# Altium schematic symbol library Synthiam-new.SchLib: 172 symbols (part 2 of 2)
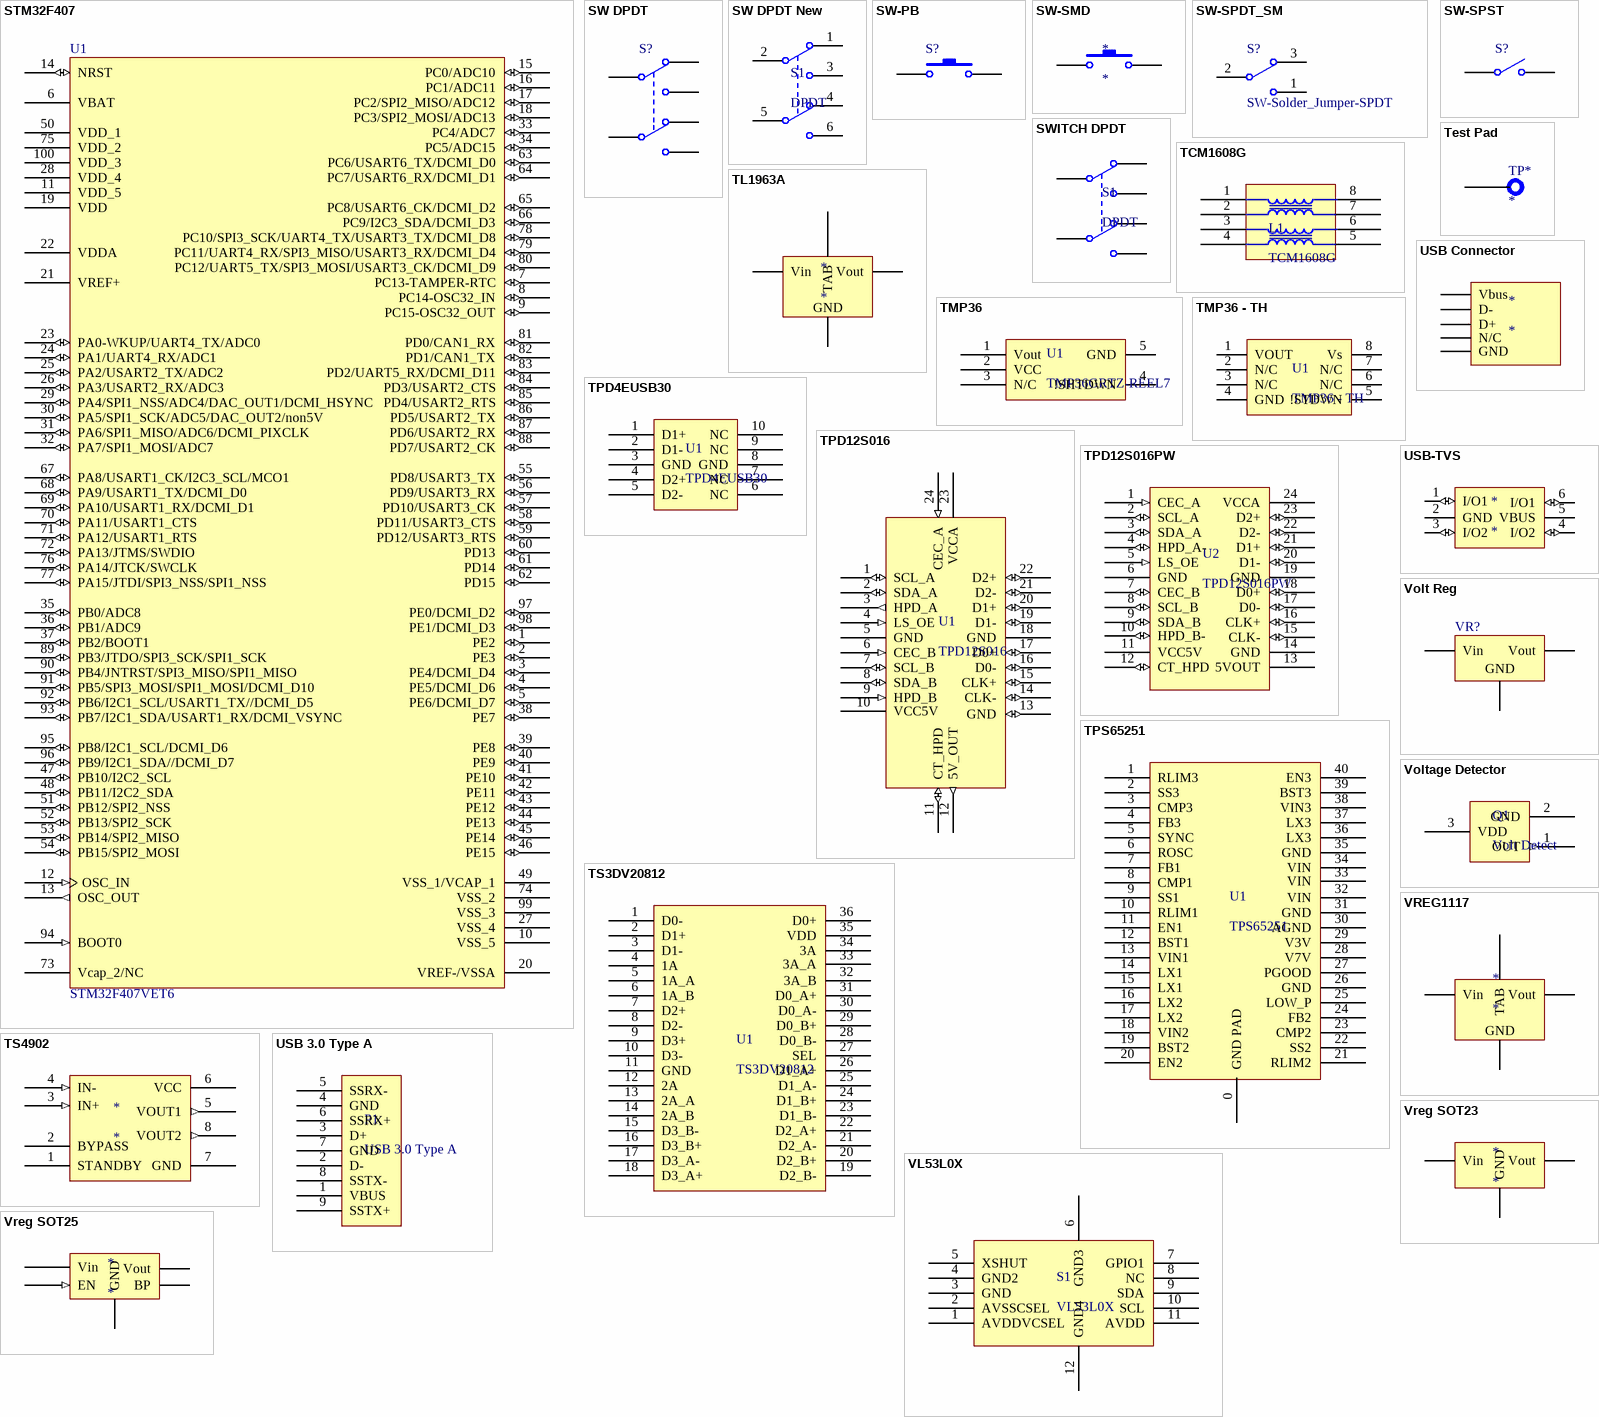
[diagram p7: symbols STM32F407 to Vreg SOT25]

## STM32F407
designator STM32F407VET6, comment U1
footprint TQFP100_M (Thin QFP, 100-Leads, Body 14x14mm, Pitch 0.5mm, IPC Low Density)
pins: 1 PE2 (io), 2 PE3 (io), 3 PE4/DCMI_D4 (io), 4 PE5/DCMI_D6 (io), 5 PE6/DCMI_D7 (io), 6 VBAT (power), 7 PC13-TAMPER-RTC (io), 8 PC14-OSC32_IN (io), 9 PC15-OSC32_OUT (io), 10 VSS_5 (power), 11 VDD_5 (power), 12 OSC_IN (in), 13 OSC_OUT (out), 14 NRST (io), 15 PC0/ADC10 (io), 16 PC1/ADC11 (io), 17 PC2/SPI2_MISO/ADC12 (io), 18 PC3/SPI2_MOSI/ADC13 (io), 19 VDD (power), 20 VREF-/VSSA (power), 21 VREF+ (power), 22 VDDA (power), 23 PA0-WKUP/UART4_TX/ADC0 (io), 24 PA1/UART4_RX/ADC1 (io), 25 PA2/USART2_TX/ADC2 (io), 26 PA3/USART2_RX/ADC3 (io), 27 VSS_4 (power), 28 VDD_4 (power), 29 PA4/SPI1_NSS/ADC4/DAC_OUT1/DCMI_HSYNC (io), 30 PA5/SPI1_SCK/ADC5/DAC_OUT2/non5V (io), 31 PA6/SPI1_MISO/ADC6/DCMI_PIXCLK (io), 32 PA7/SPI1_MOSI/ADC7 (io), 33 PC4/ADC7 (io), 34 PC5/ADC15 (io), 35 PB0/ADC8 (io), 36 PB1/ADC9 (io), 37 PB2/BOOT1 (io), 38 PE7 (io), 39 PE8 (io), 40 PE9 (io), 41 PE10 (io), 42 PE11 (io), 43 PE12 (io), 44 PE13 (io), 45 PE14 (io), 46 PE15 (io), 47 PB10/I2C2_SCL (io), 48 PB11/I2C2_SDA (io), 49 VSS_1/VCAP_1 (power), 50 VDD_1 (power), 51 PB12/SPI2_NSS (io), 52 PB13/SPI2_SCK (io), 53 PB14/SPI2_MISO (io), 54 PB15/SPI2_MOSI (io), 55 PD8/USART3_TX (io), 56 PD9/USART3_RX (io), 57 PD10/USART3_CK (io), 58 PD11/USART3_CTS (io), 59 PD12/USART3_RTS (io), 60 PD13 (io), 61 PD14 (io), 62 PD15 (io), 63 PC6/USART6_TX/DCMI_D0 (io), 64 PC7/USART6_RX/DCMI_D1 (io), 65 PC8/USART6_CK/DCMI_D2 (io), 66 PC9/I2C3_SDA/DCMI_D3 (io), 67 PA8/USART1_CK/I2C3_SCL/MCO1 (io), 68 PA9/USART1_TX/DCMI_D0 (io), 69 PA10/USART1_RX/DCMI_D1 (io), 70 PA11/USART1_CTS (io), 71 PA12/USART1_RTS (io), 72 PA13/JTMS/SWDIO (io), 73 Vcap_2/NC, 74 VSS_2 (power), 75 VDD_2 (power), 76 PA14/JTCK/SWCLK (io), 77 PA15/JTDI/SPI3_NSS/SPI1_NSS (io), 78 PC10/SPI3_SCK/UART4_TX/USART3_TX/DCMI_D8 (io), 79 PC11/UART4_RX/SPI3_MISO/USART3_RX/DCMI_D4 (io), 80 PC12/UART5_TX/SPI3_MOSI/USART3_CK/DCMI_D9 (io), 81 PD0/CAN1_RX (io), 82 PD1/CAN1_TX (io), 83 PD2/UART5_RX/DCMI_D11 (io), 84 PD3/USART2_CTS (io), 85 PD4/USART2_RTS (io), 86 PD5/USART2_TX (io), 87 PD6/USART2_RX (io), 88 PD7/USART2_CK (io), 89 PB3/JTDO/SPI3_SCK/SPI1_SCK (io), 90 PB4/JNTRST/SPI3_MISO/SPI1_MISO (io), 91 PB5/SPI3_MOSI/SPI1_MOSI/DCMI_D10 (io), 92 PB6/I2C1_SCL/USART1_TX//DCMI_D5 (io), 93 PB7/I2C1_SDA/USART1_RX/DCMI_VSYNC (io), 94 BOOT0 (in), 95 PB8/I2C1_SCL/DCMI_D6 (io), 96 PB9/I2C1_SDA//DCMI_D7 (io), 97 PE0/DCMI_D2 (io), 98 PE1/DCMI_D3 (io), 99 VSS_3 (power), 100 VDD_3 (power)

## SW DPDT
designator S?
Switch; Published: 24-Mar-1999; LatestRevisionDate: 29-May-2009; LatestRevisionNote: IPC-7351 Footprint Added.; PackageVersion: Mar-2001; PackageReference: SOT23-6; Publisher: Altium Limited; PackageDescription: 6-Pin SOT-23 Package 0.95 mm Pitch, 2.7 mm Lead Span; Code_JEITA: SC-74; Code_IPC: SOT26A-6
footprint SOT23-6_M (SOT23, 6-Leads, Body 2.9x1.6mm, Pitch 0.95mm, Lead Span 2.7mm, IPC Low Density)
pins: 1 COMMON1, 2 NC1, 3 NO1, 4 NC2, 5 COMMON2, 6 NO2

## SW DPDT New
designator S1, comment DPDT
footprint DPDT Switch
pins: 1 NC1, 2 COMMON1, 3 NO1, 4 NC2, 5 COMMON2, 6 NO2

## SW-PB
designator S?
Switch; Published: 24-Mar-1999; LatestRevisionDate: 17-Jul-2002; LatestRevisionNote: Re-released for DXP Platform.; PackageReference: SPST-2; Publisher: Altium Limited
footprint SPST-2 (Switch; 2 Leads)
pins: 1, 2

## SW-SMD
designator *
footprint SW-SMD
pins: 1, 2

## SW-SPDT_SM
designator S?, comment SW-Solder_Jumper-SPDT
SPDT Solder Jumper; Publisher: Solarbotics Ltd.
footprint SJ-SPDT (Solder blob 2 positions)
pins: 1, 2, 3

## SW-SPST
designator S?
Single-Pole, Single-Throw Switch; Published: 24-Mar-1999; LatestRevisionDate: 17-Jul-2002; LatestRevisionNote: Re-released for DXP Platform.; PackageReference: SPST-2; Publisher: Altium Limited
footprint SPST-2 (Single-Pole, Single-Throw Switch; 2 Leads)
pins: 1 COMMON, 2 NO

## SWITCH DPDT
designator S1, comment DPDT
footprint SWITCH DPDT SMD
pins: 1 NC1, 2 COMMON1, 3 NO1, 4 NC2, 5 COMMON2, 6 NO2

## TCM1608G
designator L1
footprint TCM1608G
pins: 1, 2, 3, 4, 5, 6, 7, 8

## Test Pad
designator TP*
Test Pad / Aux Pad
footprint Test_Pad-lg (80mil pad, 72mil hole)
footprint Test_Pad-reg (70mil dia; 35mil hole)
pins: 0

## TL1963A
designator *
footprint VREG1117
pins: 1 Vin, 2 GND, 2 TAB, 3 Vout

## TMP36
designator U1, comment TMP36GRTZ-REEL7
footprint SOT-23-5
pins: 1 Vout (power), 2 VCC (power), 3 N/C, 4 !SHTDWN (power), 5 GND (power)

## TMP36 - TH
designator U1
footprint SOIC-8
pins: 1 VOUT (power), 2 N/C, 3 N/C, 4 GND (power), 5 !STDWN, 6 N/C, 7 N/C, 8 Vs (power)

## TPD4EUSB30
designator U1
footprint TPD4EUSB30
pins: 1 D1+, 2 D1-, 3 GND, 4 D2+, 5 D2-, 6 NC, 7 NC, 8 GND, 9 NC, 10 NC

## TPD12S016
designator U1
footprint TPD12S016
pins: 1 SCL_A (io), 2 SDA_A (io), 3 HPD_A (out), 4 LS_OE (in), 5 GND (power), 6 CEC_B (in), 7 SCL_B (io), 8 SDA_B (io), 9 HPD_B (in), 10 VCC5V (power), 11 CT_HPD (io), 12 5V_OUT (out), 13 GND (io), 14 CLK- (io), 15 CLK+ (io), 16 D0- (io), 17 D0+ (io), 18 GND (power), 19 D1- (io), 20 D1+ (io), 21 D2- (io), 22 D2+ (io), 23 VCCA (power), 24 CEC_A (in)

## TPD12S016PW
designator U2
footprint SSOP24
pins: 1 CEC_A (in), 2 SCL_A (io), 3 SDA_A (io), 4 HPD_A- (io), 5 LS_OE (in), 6 GND (power), 7 CEC_B (io), 8 SCL_B (io), 9 SDA_B (io), 10 HPD_B- (io), 11 VCC5V (power), 12 CT_HPD (io), 13 5VOUT (power), 14 GND (power), 15 CLK- (io), 16 CLK+ (io), 17 D0- (io), 18 D0+ (io), 19 GND (power), 20 D1- (io), 21 D1+ (io), 22 D2- (io), 23 D2+ (io), 24 VCCA (power)

## TPS65251
designator U1
footprint QFN-40 w/ pad
pins: 0 GND PAD, 1 RLIM3, 2 SS3, 3 CMP3, 4 FB3, 5 SYNC, 6 ROSC, 7 FB1, 8 CMP1, 9 SS1, 10 RLIM1, 11 EN1, 12 BST1, 13 VIN1, 14 LX1, 15 LX1, 16 LX2, 17 LX2, 18 VIN2, 19 BST2, 20 EN2, 21 RLIM2, 22 SS2, 23 CMP2, 24 FB2, 25 LOW_P, 26 GND, 27 PGOOD, 28 V7V, 29 V3V, 30 AGND, 31 GND, 32 VIN, 33 VIN, 34 VIN, 35 GND, 36 LX3, 37 LX3, 38 VIN3, 39 BST3, 40 EN3

## TS3DV20812
designator U1
footprint QFN-36
pins: 1 D0-, 2 D1+, 3 D1-, 4 1A, 5 1A_A, 6 1A_B, 7 D2+, 8 D2-, 9 D3+, 10 D3-, 11 GND, 12 2A, 13 2A_A, 14 2A_B, 15 D3_B-, 16 D3_B+, 17 D3_A-, 18 D3_A+, 19 D2_B-, 20 D2_B+, 21 D2_A-, 22 D2_A+, 23 D1_B-, 24 D1_B+, 25 D1_A-, 26 D1_A+, 27 SEL, 28 D0_B-, 29 D0_B+, 30 D0_A-, 31 D0_A+, 32 3A_B, 33 3A_A, 34 3A, 35 VDD, 36 D0+

## TS4902
designator *
footprint SO-8
pins: 1 STANDBY, 2 BYPASS, 3 IN+ (in), 4 IN- (in), 5 VOUT1 (out), 6 VCC (power), 7 GND, 8 VOUT2 (out)

## USB 3.0 Type A
designator P1
footprint USB 3.0 Type A
pins: 1 VBUS, 2 D-, 3 D+, 4 GND, 5 SSRX-, 6 SSRX+, 7 GND, 8 SSTX-, 9 SSTX+

## USB Connector
designator *
footprint 32005-201
pins: 1 Vbus, 2 D-, 3 D+, 4 N/C, 5 GND

## USB-TVS
designator *
footprint SOT23-6_M (SOT23, 6-Leads, Body 2.9x1.6mm, Pitch 0.95mm, Lead Span 2.7mm, IPC Low Density)
pins: 1 I/O1 (io) "Input/Output 1", 2 GND (power) "Ground", 3 I/O2 (io) "Input/Output 2", 4 I/O2 (io) "Input/Output 1", 5 VBUS (power) "Supply", 6 I/O1 (io) "Input/Output 2"

## VL53L0X
designator S1
footprint VL53L0X
pins: 1 AVDDVCSEL, 2 AVSSCSEL, 3 GND, 4 GND2, 5 XSHUT, 6 GND3, 7 GPIO1, 8 NC, 9 SDA, 10 SCL, 11 AVDD, 12 GND4

## Volt Reg
designator VR?
Voltage Regulator; Published: 24-Mar-1999; LatestRevisionDate: 29-May-2009; LatestRevisionNote: IPC-7351 Footprint Added.; PackageReference: D2PAK; Publisher: Altium Limited; PackageDescription: 3-Pin Transistor Outline Package 2.54 mm Pitch, 15.1 mm Lead Span
footprint TI-KTT (Texas Insruments KTT package for TLV1117IKVURG3 VReg); pin to pad 1>2 2>3 3>1
footprint TO92 - LM7805
footprint TO-220
footprint D2PAK_M (D2-PAK, 4-Leads, Body 8.8x10.4mm, Pitch 2.54mm, Lead Span 15.1mm, IPC Low Density)
pins: 1 Vin, 2 GND, 3 Vout

## Voltage Detector
designator Q1, comment Volt Detect
footprint SOT-23
pins: 1 OUT (out), 2 GND, 3 VDD

## VREG1117
designator *
footprint VREG1117
pins: 1 GND, 2 Vout, 2 TAB, 3 Vin

## Vreg SOT23
designator *
footprint SOT-23
pins: 1 GND, 2 Vout, 3 Vin

## Vreg SOT25
designator *
footprint SOT-25 new
pins: 1 BP, 2 Vout, 3 GND, 4 EN (in), 5 Vin

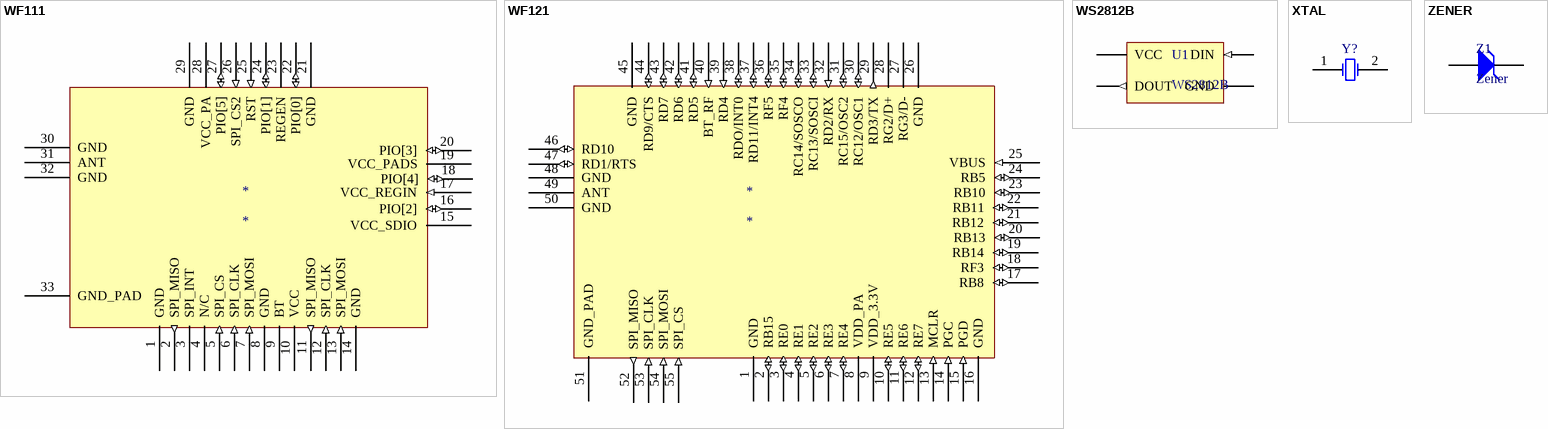
[diagram p6: symbols WF111 to ZENER]

## WF111
designator *
footprint wf111
pins: 1 GND (power), 2 SPI_MISO (out), 3 SPI_INT, 4 N/C (power), 5 SPI_CS (in), 6 SPI_CLK (in), 7 SPI_MOSI (in), 8 GND (power), 9 BT (power), 10 VCC (power), 11 SPI_MISO (out), 12 SPI_CLK (in), 13 SPI_MOSI (in), 14 GND (power), 15 VCC_SDIO (power), 16 PIO[2] (io), 17 VCC_REGIN (in), 18 PIO[4] (io), 19 VCC_PADS (power), 20 PIO[3] (io), 21 GND (power), 22 PIO[0] (io), 23 REGEN (power), 24 PIO[1] (io), 25 RST (in), 26 SPI_CS2 (in), 27 PIO[5] (io), 28 VCC_PA (power), 29 GND (power), 30 GND (power), 31 ANT, 32 GND (power), 33 GND_PAD (power)

## WF121
designator *
footprint wf121
pins: 1 GND (power), 2 RB15 (io), 3 RE0 (io), 4 RE1 (io), 5 RE2 (io), 6 RE3 (io), 7 RE4 (io), 8 VDD_PA (power), 9 VDD_3.3V (power), 10 RE5 (io), 11 RE6 (io), 12 RE7 (io), 13 MCLR (in), 14 PGC (in), 15 PGD (in), 16 GND (power), 17 RB8 (io), 18 RF3 (io), 19 RB14 (io), 20 RB13 (io), 21 RB12 (io), 22 RB11 (io), 23 RB10 (io), 24 RB5 (io), 25 VBUS (in), 26 GND (power), 27 RG3/D-, 28 RG2/D+, 29 RD3/TX (out), 30 RC12/OSC1 (io), 31 RC15/OSC2 (io), 32 RD2/RX (in), 33 RC13/SOSCI (io), 34 RC14/SOSCO (io), 35 RF4 (io), 36 RF5 (io), 37 RD11/INT4 (io), 38 RDO/INT0 (io), 39 RD4 (in), 40 BT_RF (in), 41 RD5 (io), 42 RD6 (io), 43 RD7 (io), 44 RD9/CTS (io), 45 GND (power), 46 RD10 (io), 47 RD1/RTS (io), 48 GND (power), 49 ANT, 50 GND (power), 51 GND_PAD (power), 52 SPI_MISO (out), 53 SPI_CLK (in), 54 SPI_MOSI (in), 55 SPI_CS (in)

## WS2812B
designator U1
footprint ws2812b
pins: 1 VCC (power), 2 DOUT (out), 3 GND (power), 4 DIN (in)

## XTAL
designator Y?
Crystal Oscillator; Published: 8-Jun-2000; LatestRevisionDate: 17-Jul-2002; LatestRevisionNote: Re-released for DXP Platform.; PackageReference: R38; Publisher: Altium Limited
simulation model XTAL (Spice Subcircuit)
footprint R38 (Crystal, Thru-Hole; 2 Leads; Body 3.1 x 8.2 mm (Dia.xH))
footprint XTAL1
footprint XTAL-2
footprint XTAL-6
footprint XTAL-SMD8
footprint XTAL-SMD9
footprint crystal (16Mhz Crystal)
pins: 1 OSC1, 2 OSC2

## ZENER
designator Z1, comment Zener
footprint DIODE SOD-123
footprint DIODE0.2
footprint Diode0.3
pins: 1 A, 2 K